# Altium schematic symbol library Analog Devices Amplifiers and Linear Voltage References.SchLib: 547 symbols (part 2 of 20)
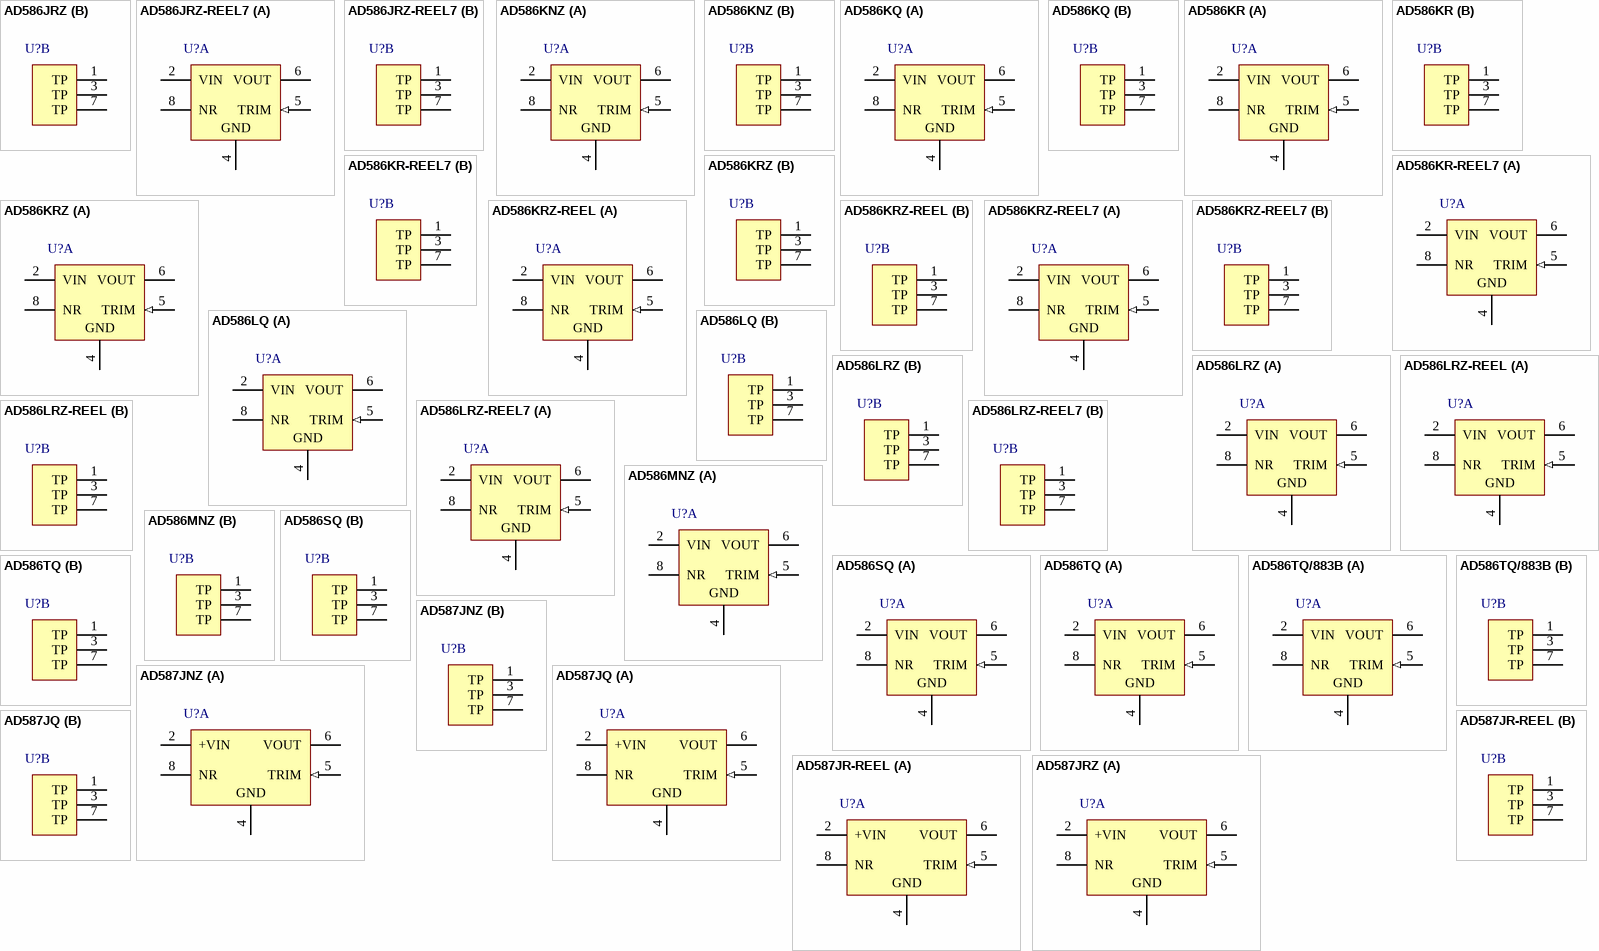
[diagram p21: symbols AD586JRZ to AD587JRZ]

## AD586KRZ-REEL
designator U?
High Precision Reference, 5 V Output, 10.8 to 36 V Supply, Commercial, 8-pin SOIC (R-8), Reel; Manufacturer: Analog Devices; PartNumber: AD586KRZ-REEL; Ref Out TC (ppm/C): 15; Vout: 5V; DatasheetVersion: Rev. G; PackageVersion: 060506-A, 06/2006; PackageReference: R-8; PackageDescription: 8-Pin Standard Small Outline Package, Body 4.9 x 3.9 mm, Pitch 1.27 mm; Supplier 1: Digi-Key; Supplier Part Number 1: AD586KRZ-REEL-ND; Supplier 2: Mouser; Supplier Part Number 2: 584-AD586KRZ-R; Packing: Reel; Operating Temp Range: 0 to 70 degC; Mounting Technology: Surface Mount; Code_JEDEC: MS-012-AA; ComponentLink1Description: Manufacturer URL; ComponentLink1URL: http://www.analog.com/en/index.html; ComponentLink2Description: Datasheet; ComponentLink2URL: http://www.analog.com/static/imported-files/data_sheets/AD586.pdf; ComponentLink3Description: Package Specification; ComponentLink3URL: http://www.analog.com/static/imported-files/packages/PKG_PDF/SOIC_Narrow%20(R)/R_8.pdf; ComponentLink4Description: URL Link1; ComponentLink4URL: Product URL:http://www.analog.com/en/special-linear-functions/voltage-references/ad586/products/product.html
footprint ADI-R-8_N (SOIC, 8-Leads, Body 4.9x3.9mm, Pitch 1.27mm, IPC Medium Density)
footprint ADI-R-8_L (SOIC, 8-Leads, Body 4.9x3.9mm, Pitch 1.27mm, IPC High Density)
footprint ADI-R-8_M (SOIC, 8-Leads, Body 4.9x3.9mm, Pitch 1.27mm, IPC Low Density)
part A pins: 2 VIN (power) "Input Voltage.", 4 GND (power) "Ground.", 5 TRIM (in) "Optional External Fine Trim. See the Applying the AD586 section.", 6 VOUT (power) "Output Voltage.", 8 NR "Optional Noise Reduction Filter with External 1uF Capacitor to Ground."
part B pins: 1 TP "Factory Trim Pad (No Connect).", 3 TP "Factory Trim Pad (No Connect).", 7 TP "Factory Trim Pad (No Connect)."

## AD586KRZ-REEL7
designator U?
High Precision Reference, 5 V Output, 10.8 to 36 V Supply, Commercial, 8-pin SOIC (R-8), Reel; Manufacturer: Analog Devices; PartNumber: AD586KRZ-REEL7; Ref Out TC (ppm/C): 15; Vout: 5V; DatasheetVersion: Rev. G; PackageVersion: 060506-A, 06/2006; PackageReference: R-8; PackageDescription: 8-Pin Standard Small Outline Package, Body 4.9 x 3.9 mm, Pitch 1.27 mm; Supplier 1: Digi-Key; Supplier Part Number 1: AD586KRZ-REEL7-ND; Supplier 2: Mouser; Supplier Part Number 2: 584-AD586KRZ-R7; Packing: Reel; Operating Temp Range: 0 to 70 degC; Mounting Technology: Surface Mount; Code_JEDEC: MS-012-AA; ComponentLink1Description: Manufacturer URL; ComponentLink1URL: http://www.analog.com/en/index.html; ComponentLink2Description: Datasheet; ComponentLink2URL: http://www.analog.com/static/imported-files/data_sheets/AD586.pdf; ComponentLink3Description: Package Specification; ComponentLink3URL: http://www.analog.com/static/imported-files/packages/PKG_PDF/SOIC_Narrow%20(R)/R_8.pdf; ComponentLink4Description: URL Link1; ComponentLink4URL: Product URL:http://www.analog.com/en/special-linear-functions/voltage-references/ad586/products/product.html
footprint ADI-R-8_N (SOIC, 8-Leads, Body 4.9x3.9mm, Pitch 1.27mm, IPC Medium Density)
footprint ADI-R-8_L (SOIC, 8-Leads, Body 4.9x3.9mm, Pitch 1.27mm, IPC High Density)
footprint ADI-R-8_M (SOIC, 8-Leads, Body 4.9x3.9mm, Pitch 1.27mm, IPC Low Density)
part A pins: 2 VIN (power) "Input Voltage.", 4 GND (power) "Ground.", 5 TRIM (in) "Optional External Fine Trim. See the Applying the AD586 section.", 6 VOUT (power) "Output Voltage.", 8 NR "Optional Noise Reduction Filter with External 1uF Capacitor to Ground."
part B pins: 1 TP "Factory Trim Pad (No Connect).", 3 TP "Factory Trim Pad (No Connect).", 7 TP "Factory Trim Pad (No Connect)."

## AD586LQ
designator U?
High Precision Reference, 5 V Output, 10.8 to 36 V Supply, Commercial, 8-pin DIP (Q-8), Tube; Manufacturer: Analog Devices; PartNumber: AD586LQ; Ref Out TC (ppm/C): 5; Vout: 5V; DatasheetVersion: Rev. G; PackageVersion: Aug-05; PackageReference: Q-8; PackageDescription: 8-Pin Ceramic Dual In-Line Package, Row spacing 7.62 mm, Pitch 2.54 mm; Supplier 1: Digi-Key; Supplier Part Number 1: AD586LQ-ND; Supplier 2: Farnell; Supplier Part Number 2: 2230227; Supplier 3: Mouser; Supplier Part Number 3: 584-AD586LQ; Packing: Tube; Operating Temp Range: 0 to 70 degC; Mounting Technology: Through Hole; ComponentLink1Description: Manufacturer URL; ComponentLink1URL: http://www.analog.com/en/index.html; ComponentLink2Description: Datasheet; ComponentLink2URL: http://www.analog.com/static/imported-files/data_sheets/AD586.pdf; ComponentLink3Description: Package Specification; ComponentLink3URL: http://www.analog.com/static/imported-files/packages/3925655241313314758Q_8.pdf; ComponentLink4Description: URL Link1; ComponentLink4URL: Product URL:http://www.analog.com/en/special-linear-functions/voltage-references/ad586/products/product.html
footprint ADI-Q-8 (DIP, 8-Leads, Body 10.29x6.73mm, Pitch 2.54mm)
part A pins: 2 VIN (power) "Input Voltage.", 4 GND (power) "Ground.", 5 TRIM (in) "Optional External Fine Trim. See the Applying the AD586 section.", 6 VOUT (power) "Output Voltage.", 8 NR "Optional Noise Reduction Filter with External 1uF Capacitor to Ground."
part B pins: 1 TP "Factory Trim Pad (No Connect).", 3 TP "Factory Trim Pad (No Connect).", 7 TP "Factory Trim Pad (No Connect)."

## AD586LRZ
designator U?
High Precision Reference, 5 V Output, 10.8 to 36 V Supply, Commercial, 8-pin SOIC (R-8), Tube; Manufacturer: Analog Devices; PartNumber: AD586LRZ; Ref Out TC (ppm/C): 5; Vout: 5V; DatasheetVersion: Rev. G; PackageVersion: 060506-A, 06/2006; PackageReference: R-8; PackageDescription: 8-Pin Standard Small Outline Package, Body 4.9 x 3.9 mm, Pitch 1.27 mm; Supplier 1: Digi-Key; Supplier Part Number 1: AD586LRZ-ND; Supplier 2: Farnell; Supplier Part Number 2: 1838915; Supplier 3: Mouser; Supplier Part Number 3: 584-AD586LRZ; Packing: Tube; Operating Temp Range: 0 to 70 degC; Mounting Technology: Surface Mount; Code_JEDEC: MS-012-AA; ComponentLink1Description: Manufacturer URL; ComponentLink1URL: http://www.analog.com/en/index.html; ComponentLink2Description: Datasheet; ComponentLink2URL: http://www.analog.com/static/imported-files/data_sheets/AD586.pdf; ComponentLink3Description: Package Specification; ComponentLink3URL: http://www.analog.com/static/imported-files/packages/PKG_PDF/SOIC_Narrow%20(R)/R_8.pdf; ComponentLink4Description: URL Link1; ComponentLink4URL: Product URL:http://www.analog.com/en/special-linear-functions/voltage-references/ad586/products/product.html
footprint ADI-R-8_N (SOIC, 8-Leads, Body 4.9x3.9mm, Pitch 1.27mm, IPC Medium Density)
footprint ADI-R-8_L (SOIC, 8-Leads, Body 4.9x3.9mm, Pitch 1.27mm, IPC High Density)
footprint ADI-R-8_M (SOIC, 8-Leads, Body 4.9x3.9mm, Pitch 1.27mm, IPC Low Density)
part A pins: 2 VIN (power) "Input Voltage.", 4 GND (power) "Ground.", 5 TRIM (in) "Optional External Fine Trim. See the Applying the AD586 section.", 6 VOUT (power) "Output Voltage.", 8 NR "Optional Noise Reduction Filter with External 1uF Capacitor to Ground."
part B pins: 1 TP "Factory Trim Pad (No Connect).", 3 TP "Factory Trim Pad (No Connect).", 7 TP "Factory Trim Pad (No Connect)."

## AD586LRZ-REEL
designator U?
High Precision Reference, 5 V Output, 10.8 to 36 V Supply, Commercial, 8-pin SOIC (R-8), Reel; Manufacturer: Analog Devices; PartNumber: AD586LRZ-REEL; Ref Out TC (ppm/C): 5; Vout: 5V; DatasheetVersion: Rev. G; PackageVersion: 060506-A, 06/2006; PackageReference: R-8; PackageDescription: 8-Pin Standard Small Outline Package, Body 4.9 x 3.9 mm, Pitch 1.27 mm; Supplier 1: Digi-Key; Supplier Part Number 1: AD586LRZ-REEL-ND; Supplier 2: Mouser; Supplier Part Number 2: 584-AD586LRZ-R; Packing: Reel; Operating Temp Range: 0 to 70 degC; Mounting Technology: Surface Mount; Code_JEDEC: MS-012-AA; ComponentLink1Description: Manufacturer URL; ComponentLink1URL: http://www.analog.com/en/index.html; ComponentLink2Description: Datasheet; ComponentLink2URL: http://www.analog.com/static/imported-files/data_sheets/AD586.pdf; ComponentLink3Description: Package Specification; ComponentLink3URL: http://www.analog.com/static/imported-files/packages/PKG_PDF/SOIC_Narrow%20(R)/R_8.pdf; ComponentLink4Description: URL Link1; ComponentLink4URL: Product URL:http://www.analog.com/en/special-linear-functions/voltage-references/ad586/products/product.html
footprint ADI-R-8_N (SOIC, 8-Leads, Body 4.9x3.9mm, Pitch 1.27mm, IPC Medium Density)
footprint ADI-R-8_L (SOIC, 8-Leads, Body 4.9x3.9mm, Pitch 1.27mm, IPC High Density)
footprint ADI-R-8_M (SOIC, 8-Leads, Body 4.9x3.9mm, Pitch 1.27mm, IPC Low Density)
part A pins: 2 VIN (power) "Input Voltage.", 4 GND (power) "Ground.", 5 TRIM (in) "Optional External Fine Trim. See the Applying the AD586 section.", 6 VOUT (power) "Output Voltage.", 8 NR "Optional Noise Reduction Filter with External 1uF Capacitor to Ground."
part B pins: 1 TP "Factory Trim Pad (No Connect).", 3 TP "Factory Trim Pad (No Connect).", 7 TP "Factory Trim Pad (No Connect)."

## AD586LRZ-REEL7
designator U?
High Precision Reference, 5 V Output, 10.8 to 36 V Supply, Commercial, 8-pin SOIC (R-8), Reel; Manufacturer: Analog Devices; PartNumber: AD586LRZ-REEL7; Ref Out TC (ppm/C): 5; Vout: 5V; DatasheetVersion: Rev. G; PackageVersion: 060506-A, 06/2006; PackageReference: R-8; PackageDescription: 8-Pin Standard Small Outline Package, Body 4.9 x 3.9 mm, Pitch 1.27 mm; Supplier 1: Digi-Key; Supplier Part Number 1: AD586LRZ-REEL7TR-ND; Supplier 2: Digi-Key; Supplier Part Number 2: AD586LRZ-REEL7CT-ND; Supplier 3: Digi-Key; Supplier Part Number 3: AD586LRZ-REEL7DKR-ND; Supplier 4: Mouser; Supplier Part Number 4: 584-AD586LRZ-R7; Packing: Reel; Operating Temp Range: 0 to 70 degC; Mounting Technology: Surface Mount; Code_JEDEC: MS-012-AA; ComponentLink1Description: Manufacturer URL; ComponentLink1URL: http://www.analog.com/en/index.html; ComponentLink2Description: Datasheet; ComponentLink2URL: http://www.analog.com/static/imported-files/data_sheets/AD586.pdf; ComponentLink3Description: Package Specification; ComponentLink3URL: http://www.analog.com/static/imported-files/packages/PKG_PDF/SOIC_Narrow%20(R)/R_8.pdf; ComponentLink4Description: URL Link1; ComponentLink4URL: Product URL:http://www.analog.com/en/special-linear-functions/voltage-references/ad586/products/product.html
footprint ADI-R-8_N (SOIC, 8-Leads, Body 4.9x3.9mm, Pitch 1.27mm, IPC Medium Density)
footprint ADI-R-8_L (SOIC, 8-Leads, Body 4.9x3.9mm, Pitch 1.27mm, IPC High Density)
footprint ADI-R-8_M (SOIC, 8-Leads, Body 4.9x3.9mm, Pitch 1.27mm, IPC Low Density)
part A pins: 2 VIN (power) "Input Voltage.", 4 GND (power) "Ground.", 5 TRIM (in) "Optional External Fine Trim. See the Applying the AD586 section.", 6 VOUT (power) "Output Voltage.", 8 NR "Optional Noise Reduction Filter with External 1uF Capacitor to Ground."
part B pins: 1 TP "Factory Trim Pad (No Connect).", 3 TP "Factory Trim Pad (No Connect).", 7 TP "Factory Trim Pad (No Connect)."

## AD586MNZ
designator U?
High Precision Reference, 5 V Output, 10.8 to 36 V Supply, Commercial, 8-pin DIP (N-8), Tube; Manufacturer: Analog Devices; PartNumber: AD586MNZ; Ref Out TC (ppm/C): 2; Vout: 5V; DatasheetVersion: Rev. G; PackageVersion: 070606-A, 07/2006; PackageReference: N-8; PackageDescription: 8-Pin Plastic Dual In-Line Package, Row spacing 7.62 mm, Pitch 2.54 mm; Supplier 1: Digi-Key; Supplier Part Number 1: AD586MNZ-ND; Supplier 2: Farnell; Supplier Part Number 2: 1438333; Supplier 3: Mouser; Supplier Part Number 3: 584-AD586MNZ; Packing: Tube; Operating Temp Range: 0 to 70 degC; Mounting Technology: Through Hole; Code_JEDEC: MS-001; ComponentLink1Description: Manufacturer URL; ComponentLink1URL: http://www.analog.com/en/index.html; ComponentLink2Description: Datasheet; ComponentLink2URL: http://www.analog.com/static/imported-files/data_sheets/AD586.pdf; ComponentLink3Description: Package Specification; ComponentLink3URL: http:/www.analog.com/static/imported-files/packages/PKG_PDF/PDIP(N)/N_8.pdf; ComponentLink4Description: URL Link1; ComponentLink4URL: Product URL:http://www.analog.com/en/special-linear-functions/voltage-references/ad586/products/product.html
footprint ADI-N-8 (DIP, 8-Leads, Body 9.59x6.6mm, Pitch 2.54mm)
part A pins: 2 VIN (power) "Input Voltage.", 4 GND (power) "Ground.", 5 TRIM (in) "Optional External Fine Trim. See the Applying the AD586 section.", 6 VOUT (power) "Output Voltage.", 8 NR "Optional Noise Reduction Filter with External 1uF Capacitor to Ground."
part B pins: 1 TP "Factory Trim Pad (No Connect).", 3 TP "Factory Trim Pad (No Connect).", 7 TP "Factory Trim Pad (No Connect)."

## AD586SQ
designator U?
High Precision Reference, 5 V Output, 10.8 to 36 V Supply, Military, 8-pin DIP (Q-8), Tube; Manufacturer: Analog Devices; PartNumber: AD586SQ; Ref Out TC (ppm/C): 20; Vout: 5V; DatasheetVersion: Rev. G; PackageVersion: Aug-05; PackageReference: Q-8; PackageDescription: 8-Pin Ceramic Dual In-Line Package, Row spacing 7.62 mm, Pitch 2.54 mm; Supplier 1: Digi-Key; Supplier Part Number 1: AD586SQ-ND; Supplier 2: Mouser; Supplier Part Number 2: 584-AD586SQ; Packing: Tube; Operating Temp Range: -40 to 125 degC; Mounting Technology: Through Hole; ComponentLink1Description: Manufacturer URL; ComponentLink1URL: http://www.analog.com/en/index.html; ComponentLink2Description: Datasheet; ComponentLink2URL: http://www.analog.com/static/imported-files/data_sheets/AD586.pdf; ComponentLink3Description: Package Specification; ComponentLink3URL: http://www.analog.com/static/imported-files/packages/3925655241313314758Q_8.pdf; ComponentLink4Description: URL Link1; ComponentLink4URL: Product URL:http://www.analog.com/en/special-linear-functions/voltage-references/ad586/products/product.html
footprint ADI-Q-8 (DIP, 8-Leads, Body 10.29x6.73mm, Pitch 2.54mm)
part A pins: 2 VIN (power) "Input Voltage.", 4 GND (power) "Ground.", 5 TRIM (in) "Optional External Fine Trim. See the Applying the AD586 section.", 6 VOUT (power) "Output Voltage.", 8 NR "Optional Noise Reduction Filter with External 1uF Capacitor to Ground."
part B pins: 1 TP "Factory Trim Pad (No Connect).", 3 TP "Factory Trim Pad (No Connect).", 7 TP "Factory Trim Pad (No Connect)."

## AD586TQ
designator U?
High Precision Reference, 5 V Output, 10.8 to 36 V Supply, Military, 8-pin DIP (Q-8), Tube; Manufacturer: Analog Devices; PartNumber: AD586TQ; Ref Out TC (ppm/C): 10; Vout: 5V; DatasheetVersion: Rev. G; PackageVersion: Aug-05; PackageReference: Q-8; PackageDescription: 8-Pin Ceramic Dual In-Line Package, Row spacing 7.62 mm, Pitch 2.54 mm; Supplier 1: Digi-Key; Supplier Part Number 1: AD586TQ-ND; Supplier 2: Mouser; Supplier Part Number 2: 584-AD586TQ; Packing: Tube; Operating Temp Range: -40 to 125 degC; Mounting Technology: Through Hole; ComponentLink1Description: Manufacturer URL; ComponentLink1URL: http://www.analog.com/en/index.html; ComponentLink2Description: Datasheet; ComponentLink2URL: http://www.analog.com/static/imported-files/data_sheets/AD586.pdf; ComponentLink3Description: Package Specification; ComponentLink3URL: http://www.analog.com/static/imported-files/packages/3925655241313314758Q_8.pdf; ComponentLink4Description: URL Link1; ComponentLink4URL: Product URL:http://www.analog.com/en/special-linear-functions/voltage-references/ad586/products/product.html
footprint ADI-Q-8 (DIP, 8-Leads, Body 10.29x6.73mm, Pitch 2.54mm)
part A pins: 2 VIN (power) "Input Voltage.", 4 GND (power) "Ground.", 5 TRIM (in) "Optional External Fine Trim. See the Applying the AD586 section.", 6 VOUT (power) "Output Voltage.", 8 NR "Optional Noise Reduction Filter with External 1uF Capacitor to Ground."
part B pins: 1 TP "Factory Trim Pad (No Connect).", 3 TP "Factory Trim Pad (No Connect).", 7 TP "Factory Trim Pad (No Connect)."

## AD586TQ/883B
designator U?
High Precision Reference, 5 V Output, 10.8 to 36 V Supply, Military, 8-pin DIP (Q-8), Tube; Manufacturer: Analog Devices; PartNumber: AD586TQ/883B; Ref Out TC (ppm/C): 10; Vout: 5V; DatasheetVersion: Rev. G; PackageVersion: Aug-05; PackageReference: Q-8; PackageDescription: 8-Pin Ceramic Dual In-Line Package, Row spacing 7.62 mm, Pitch 2.54 mm; Supplier 1: Mouser; Supplier Part Number 1: 584-AD586TQ883B; Packing: Tube; Operating Temp Range: -40 to 125 degC; Mounting Technology: Through Hole; ComponentLink1Description: Manufacturer URL; ComponentLink1URL: http://www.analog.com/en/index.html; ComponentLink2Description: Datasheet; ComponentLink2URL: http://www.analog.com/static/imported-files/data_sheets/AD586.pdf; ComponentLink3Description: Package Specification; ComponentLink3URL: http://www.analog.com/static/imported-files/packages/3925655241313314758Q_8.pdf; ComponentLink4Description: URL Link1; ComponentLink4URL: Product URL:http://www.analog.com/en/special-linear-functions/voltage-references/ad586/products/product.html
footprint ADI-Q-8 (DIP, 8-Leads, Body 10.29x6.73mm, Pitch 2.54mm)
part A pins: 2 VIN (power) "Input Voltage.", 4 GND (power) "Ground.", 5 TRIM (in) "Optional External Fine Trim. See the Applying the AD586 section.", 6 VOUT (power) "Output Voltage.", 8 NR "Optional Noise Reduction Filter with External 1uF Capacitor to Ground."
part B pins: 1 TP "Factory Trim Pad (No Connect).", 3 TP "Factory Trim Pad (No Connect).", 7 TP "Factory Trim Pad (No Connect)."

## AD587JNZ
designator U?
High Precision Voltage Reference, 10 V Output, 13.5 to 36 V Supply, Commercial, 8-pin DIP (N-8), Tube; Manufacturer: Analog Devices; PartNumber: AD587JNZ; Ref Out TC (ppm/C): 20; Vout: 10V; DatasheetVersion: Rev. H; PackageVersion: 070606-A, 07/2006; PackageReference: N-8; PackageDescription: 8-Pin Plastic Dual In-Line Package, Row spacing 7.62 mm, Pitch 2.54 mm; Supplier 1: Digi-Key; Supplier Part Number 1: AD587JNZ-ND; Supplier 2: Farnell; Supplier Part Number 2: 9605169; Supplier 3: Mouser; Supplier Part Number 3: 584-AD587JNZ; Packing: Tube; Operating Temp Range: 0 to 70 degC; Mounting Technology: Through Hole; Code_JEDEC: MS-001; ComponentLink1Description: Manufacturer URL; ComponentLink1URL: http://www.analog.com/en/index.html; ComponentLink2Description: Datasheet; ComponentLink2URL: http://www.analog.com/static/imported-files/data_sheets/AD587.pdf; ComponentLink3Description: Package Specification; ComponentLink3URL: http:/www.analog.com/static/imported-files/packages/PKG_PDF/PDIP(N)/N_8.pdf; ComponentLink4Description: URL Link1; ComponentLink4URL: Product URL:http://www.analog.com/en/special-linear-functions/voltage-references/ad587/products/product.html
footprint ADI-N-8 (DIP, 8-Leads, Body 9.59x6.6mm, Pitch 2.54mm)
part A pins: 2 +VIN (power) "Input Voltage.", 4 GND (power) "Ground.", 5 TRIM (in) "Fine Trimming of Output Voltage.", 6 VOUT (power) "Output Voltage.", 8 NR "Noise Reduction of Output Voltage. Reduces noise via external capacitor to ground."
part B pins: 1 TP "No Connection. Leave floating.", 3 TP "No Connection. Leave floating.", 7 TP "No Connection. Leave floating."

## AD587JQ
designator U?
High Precision Voltage Reference, 10 V Output, 13.5 to 36 V Supply, Commercial, 8-pin DIP (Q-8), Tube; Manufacturer: Analog Devices; PartNumber: AD587JQ; Ref Out TC (ppm/C): 20; Vout: 10V; DatasheetVersion: Rev. H; PackageVersion: Aug-05; PackageReference: Q-8; PackageDescription: 8-Pin Ceramic Dual In-Line Package, Row spacing 7.62 mm, Pitch 2.54 mm; Supplier 1: Digi-Key; Supplier Part Number 1: AD587JQ-ND; Supplier 2: Mouser; Supplier Part Number 2: 584-AD587JQ; Packing: Tube; Operating Temp Range: 0 to 70 degC; Mounting Technology: Through Hole; ComponentLink1Description: Manufacturer URL; ComponentLink1URL: http://www.analog.com/en/index.html; ComponentLink2Description: Datasheet; ComponentLink2URL: http://www.analog.com/static/imported-files/data_sheets/AD587.pdf; ComponentLink3Description: Package Specification; ComponentLink3URL: http://www.analog.com/static/imported-files/packages/3925655241313314758Q_8.pdf; ComponentLink4Description: URL Link1; ComponentLink4URL: Product URL:http://www.analog.com/en/special-linear-functions/voltage-references/ad587/products/product.html
footprint ADI-Q-8 (DIP, 8-Leads, Body 10.29x6.73mm, Pitch 2.54mm)
part A pins: 2 +VIN (power) "Input Voltage.", 4 GND (power) "Ground.", 5 TRIM (in) "Fine Trimming of Output Voltage.", 6 VOUT (power) "Output Voltage.", 8 NR "Noise Reduction of Output Voltage. Reduces noise via external capacitor to ground."
part B pins: 1 TP "No Connection. Leave floating.", 3 TP "No Connection. Leave floating.", 7 TP "No Connection. Leave floating."

## AD587JR-REEL
designator U?
High Precision Voltage Reference, 10 V Output, 13.5 to 36 V Supply, Commercial, 8-pin SOIC (R-8), Reel; Manufacturer: Analog Devices; PartNumber: AD587JR-REEL; Ref Out TC (ppm/C): 20; Vout: 10V; DatasheetVersion: Rev. H; PackageVersion: 060506-A, 06/2006; PackageReference: R-8; PackageDescription: 8-Pin Standard Small Outline Package, Body 4.9 x 3.9 mm, Pitch 1.27 mm; Supplier 1: Digi-Key; Supplier Part Number 1: AD587JR-REEL-ND; Supplier 2: Mouser; Supplier Part Number 2: N/A; Packing: Reel; Operating Temp Range: 0 to 70 degC; Mounting Technology: Surface Mount; Code_JEDEC: MS-012-AA; ComponentLink1Description: Manufacturer URL; ComponentLink1URL: http://www.analog.com/en/index.html; ComponentLink2Description: Datasheet; ComponentLink2URL: http://www.analog.com/static/imported-files/data_sheets/AD587.pdf; ComponentLink3Description: Package Specification; ComponentLink3URL: http://www.analog.com/static/imported-files/packages/PKG_PDF/SOIC_Narrow%20(R)/R_8.pdf; ComponentLink4Description: URL Link1; ComponentLink4URL: Product URL:http://www.analog.com/en/special-linear-functions/voltage-references/ad587/products/product.html
footprint ADI-R-8_N (SOIC, 8-Leads, Body 4.9x3.9mm, Pitch 1.27mm, IPC Medium Density)
footprint ADI-R-8_L (SOIC, 8-Leads, Body 4.9x3.9mm, Pitch 1.27mm, IPC High Density)
footprint ADI-R-8_M (SOIC, 8-Leads, Body 4.9x3.9mm, Pitch 1.27mm, IPC Low Density)
part A pins: 2 +VIN (power) "Input Voltage.", 4 GND (power) "Ground.", 5 TRIM (in) "Fine Trimming of Output Voltage.", 6 VOUT (power) "Output Voltage.", 8 NR "Noise Reduction of Output Voltage. Reduces noise via external capacitor to ground."
part B pins: 1 TP "No Connection. Leave floating.", 3 TP "No Connection. Leave floating.", 7 TP "No Connection. Leave floating."

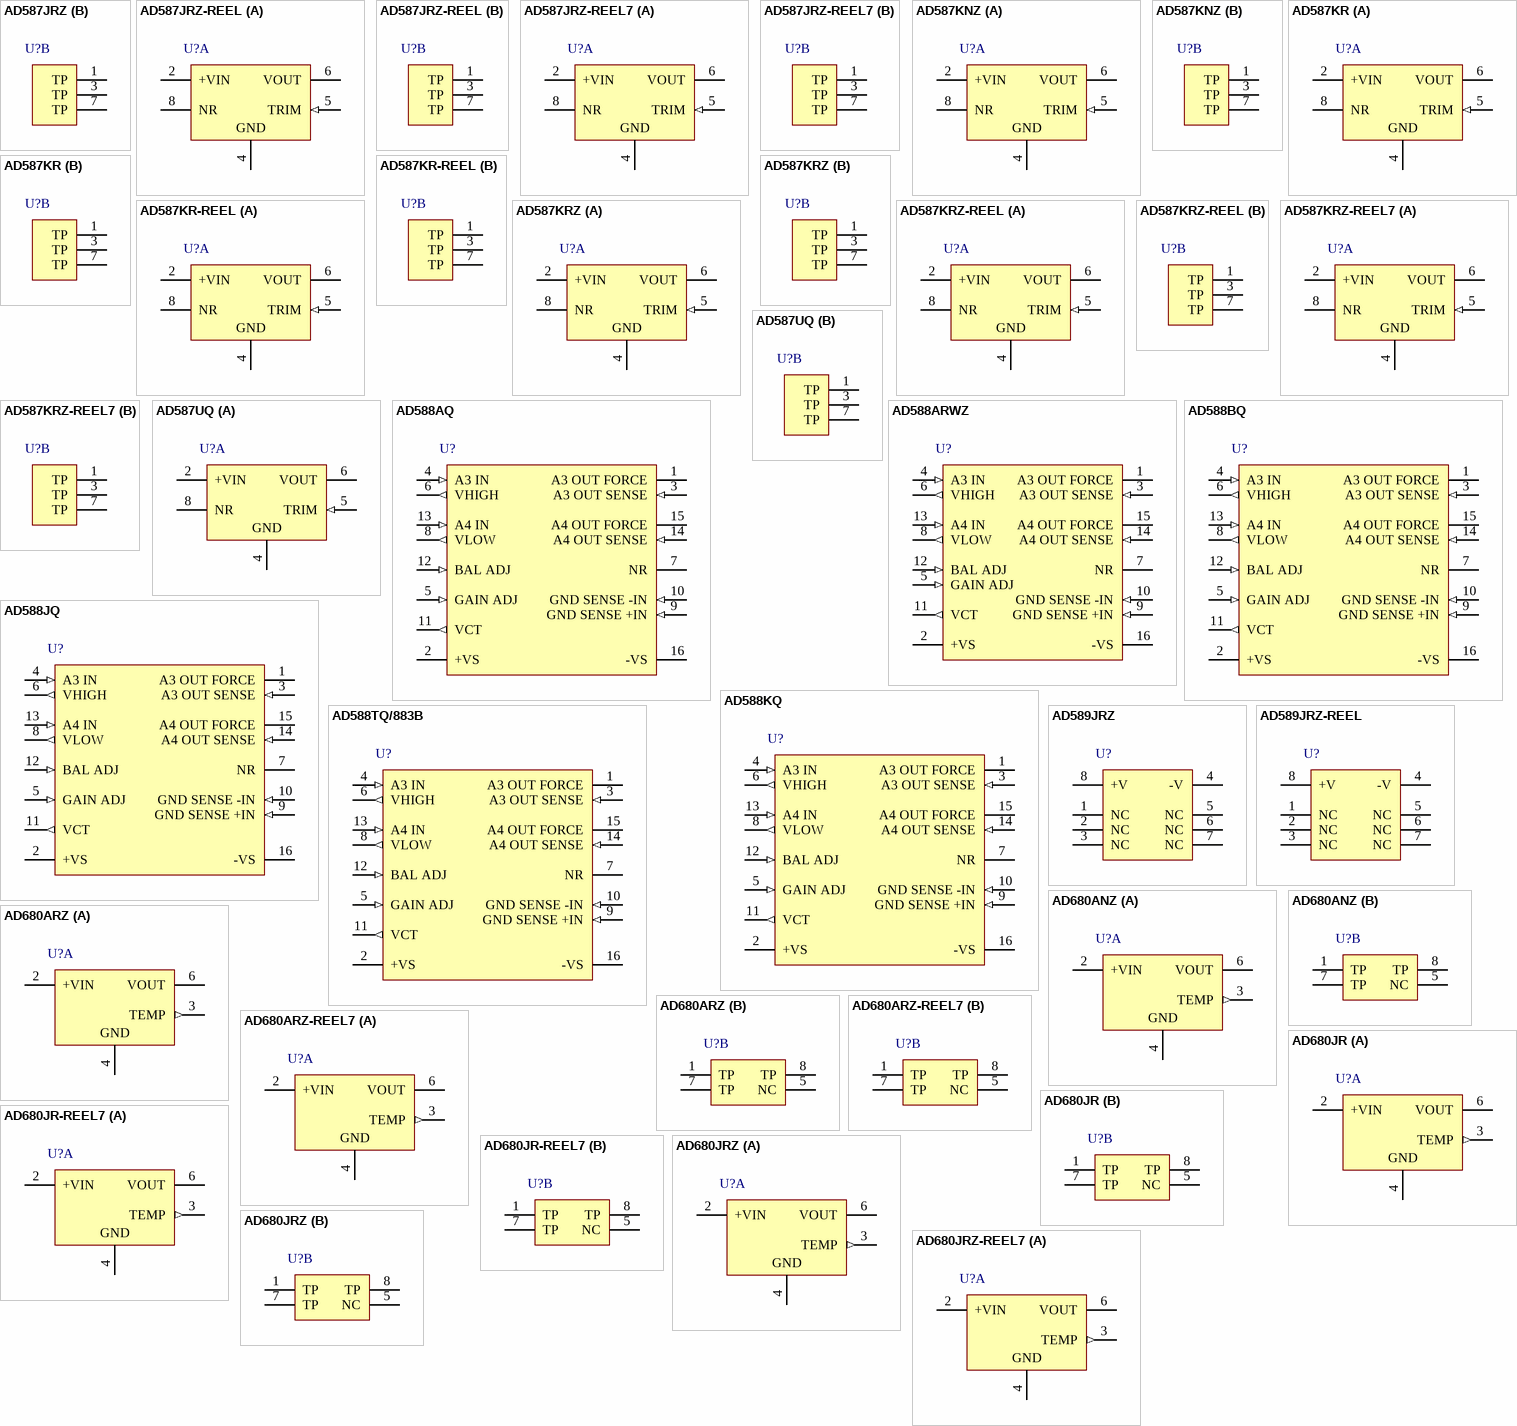
[diagram p2: symbols AD587JRZ to AD680JRZ-REEL7]

## AD587JRZ
designator U?
High Precision Voltage Reference, 10 V Output, 13.5 to 36 V Supply, Commercial, 8-pin SOIC (R-8), Tube; Manufacturer: Analog Devices; PartNumber: AD587JRZ; Ref Out TC (ppm/C): 20; Vout: 10V; DatasheetVersion: Rev. H; PackageVersion: 060506-A, 06/2006; PackageReference: R-8; PackageDescription: 8-Pin Standard Small Outline Package, Body 4.9 x 3.9 mm, Pitch 1.27 mm; Supplier 1: Digi-Key; Supplier Part Number 1: AD587JRZ-ND; Supplier 2: Farnell; Supplier Part Number 2: 9426175; Supplier 3: Mouser; Supplier Part Number 3: 584-AD587JRZ; Packing: Tube; Operating Temp Range: 0 to 70 degC; Mounting Technology: Surface Mount; Code_JEDEC: MS-012-AA; ComponentLink1Description: Manufacturer URL; ComponentLink1URL: http://www.analog.com/en/index.html; ComponentLink2Description: Datasheet; ComponentLink2URL: http://www.analog.com/static/imported-files/data_sheets/AD587.pdf; ComponentLink3Description: Package Specification; ComponentLink3URL: http://www.analog.com/static/imported-files/packages/PKG_PDF/SOIC_Narrow%20(R)/R_8.pdf; ComponentLink4Description: URL Link1; ComponentLink4URL: Product URL:http://www.analog.com/en/special-linear-functions/voltage-references/ad587/products/product.html
footprint ADI-R-8_N (SOIC, 8-Leads, Body 4.9x3.9mm, Pitch 1.27mm, IPC Medium Density)
footprint ADI-R-8_L (SOIC, 8-Leads, Body 4.9x3.9mm, Pitch 1.27mm, IPC High Density)
footprint ADI-R-8_M (SOIC, 8-Leads, Body 4.9x3.9mm, Pitch 1.27mm, IPC Low Density)
part A pins: 2 +VIN (power) "Input Voltage.", 4 GND (power) "Ground.", 5 TRIM (in) "Fine Trimming of Output Voltage.", 6 VOUT (power) "Output Voltage.", 8 NR "Noise Reduction of Output Voltage. Reduces noise via external capacitor to ground."
part B pins: 1 TP "No Connection. Leave floating.", 3 TP "No Connection. Leave floating.", 7 TP "No Connection. Leave floating."

## AD587JRZ-REEL
designator U?
High Precision Voltage Reference, 10 V Output, 13.5 to 36 V Supply, Commercial, 8-pin SOIC (R-8), Reel; Manufacturer: Analog Devices; PartNumber: AD587JRZ-REEL; Ref Out TC (ppm/C): 20; Vout: 10V; DatasheetVersion: Rev. H; PackageVersion: 060506-A, 06/2006; PackageReference: R-8; PackageDescription: 8-Pin Standard Small Outline Package, Body 4.9 x 3.9 mm, Pitch 1.27 mm; Supplier 1: Digi-Key; Supplier Part Number 1: AD587JRZ-REEL-ND; Supplier 2: Mouser; Supplier Part Number 2: 584-AD587JRZ-R; Packing: Reel; Operating Temp Range: 0 to 70 degC; Mounting Technology: Surface Mount; Code_JEDEC: MS-012-AA; ComponentLink1Description: Manufacturer URL; ComponentLink1URL: http://www.analog.com/en/index.html; ComponentLink2Description: Datasheet; ComponentLink2URL: http://www.analog.com/static/imported-files/data_sheets/AD587.pdf; ComponentLink3Description: Package Specification; ComponentLink3URL: http://www.analog.com/static/imported-files/packages/PKG_PDF/SOIC_Narrow%20(R)/R_8.pdf; ComponentLink4Description: URL Link1; ComponentLink4URL: Product URL:http://www.analog.com/en/special-linear-functions/voltage-references/ad587/products/product.html
footprint ADI-R-8_N (SOIC, 8-Leads, Body 4.9x3.9mm, Pitch 1.27mm, IPC Medium Density)
footprint ADI-R-8_L (SOIC, 8-Leads, Body 4.9x3.9mm, Pitch 1.27mm, IPC High Density)
footprint ADI-R-8_M (SOIC, 8-Leads, Body 4.9x3.9mm, Pitch 1.27mm, IPC Low Density)
part A pins: 2 +VIN (power) "Input Voltage.", 4 GND (power) "Ground.", 5 TRIM (in) "Fine Trimming of Output Voltage.", 6 VOUT (power) "Output Voltage.", 8 NR "Noise Reduction of Output Voltage. Reduces noise via external capacitor to ground."
part B pins: 1 TP "No Connection. Leave floating.", 3 TP "No Connection. Leave floating.", 7 TP "No Connection. Leave floating."

## AD587JRZ-REEL7
designator U?
High Precision Voltage Reference, 10 V Output, 13.5 to 36 V Supply, Commercial, 8-pin SOIC (R-8), Reel; Manufacturer: Analog Devices; PartNumber: AD587JRZ-REEL7; Ref Out TC (ppm/C): 20; Vout: 10V; DatasheetVersion: Rev. H; PackageVersion: 060506-A, 06/2006; PackageReference: R-8; PackageDescription: 8-Pin Standard Small Outline Package, Body 4.9 x 3.9 mm, Pitch 1.27 mm; Supplier 1: Digi-Key; Supplier Part Number 1: AD587JRZ-REEL7-ND; Supplier 2: Mouser; Supplier Part Number 2: 584-AD587JRZ-R7; Packing: Reel; Operating Temp Range: 0 to 70 degC; Mounting Technology: Surface Mount; Code_JEDEC: MS-012-AA; ComponentLink1Description: Manufacturer URL; ComponentLink1URL: http://www.analog.com/en/index.html; ComponentLink2Description: Datasheet; ComponentLink2URL: http://www.analog.com/static/imported-files/data_sheets/AD587.pdf; ComponentLink3Description: Package Specification; ComponentLink3URL: http://www.analog.com/static/imported-files/packages/PKG_PDF/SOIC_Narrow%20(R)/R_8.pdf; ComponentLink4Description: URL Link1; ComponentLink4URL: Product URL:http://www.analog.com/en/special-linear-functions/voltage-references/ad587/products/product.html
footprint ADI-R-8_N (SOIC, 8-Leads, Body 4.9x3.9mm, Pitch 1.27mm, IPC Medium Density)
footprint ADI-R-8_L (SOIC, 8-Leads, Body 4.9x3.9mm, Pitch 1.27mm, IPC High Density)
footprint ADI-R-8_M (SOIC, 8-Leads, Body 4.9x3.9mm, Pitch 1.27mm, IPC Low Density)
part A pins: 2 +VIN (power) "Input Voltage.", 4 GND (power) "Ground.", 5 TRIM (in) "Fine Trimming of Output Voltage.", 6 VOUT (power) "Output Voltage.", 8 NR "Noise Reduction of Output Voltage. Reduces noise via external capacitor to ground."
part B pins: 1 TP "No Connection. Leave floating.", 3 TP "No Connection. Leave floating.", 7 TP "No Connection. Leave floating."

## AD587KNZ
designator U?
High Precision Voltage Reference, 10 V Output, 13.5 to 36 V Supply, Commercial, 8-pin DIP (N-8), Tube; Manufacturer: Analog Devices; PartNumber: AD587KNZ; Ref Out TC (ppm/C): 10; Vout: 10V; DatasheetVersion: Rev. H; PackageVersion: 070606-A, 07/2006; PackageReference: N-8; PackageDescription: 8-Pin Plastic Dual In-Line Package, Row spacing 7.62 mm, Pitch 2.54 mm; Supplier 1: Digi-Key; Supplier Part Number 1: AD587KNZ-ND; Supplier 2: Farnell; Supplier Part Number 2: 2143134; Supplier 3: Mouser; Supplier Part Number 3: 584-AD587KNZ; Packing: Tube; Operating Temp Range: 0 to 70 degC; Mounting Technology: Through Hole; Code_JEDEC: MS-001; ComponentLink1Description: Manufacturer URL; ComponentLink1URL: http://www.analog.com/en/index.html; ComponentLink2Description: Datasheet; ComponentLink2URL: http://www.analog.com/static/imported-files/data_sheets/AD587.pdf; ComponentLink3Description: Package Specification; ComponentLink3URL: http:/www.analog.com/static/imported-files/packages/PKG_PDF/PDIP(N)/N_8.pdf; ComponentLink4Description: URL Link1; ComponentLink4URL: Product URL:http://www.analog.com/en/special-linear-functions/voltage-references/ad587/products/product.html
footprint ADI-N-8 (DIP, 8-Leads, Body 9.59x6.6mm, Pitch 2.54mm)
part A pins: 2 +VIN (power) "Input Voltage.", 4 GND (power) "Ground.", 5 TRIM (in) "Fine Trimming of Output Voltage.", 6 VOUT (power) "Output Voltage.", 8 NR "Noise Reduction of Output Voltage. Reduces noise via external capacitor to ground."
part B pins: 1 TP "No Connection. Leave floating.", 3 TP "No Connection. Leave floating.", 7 TP "No Connection. Leave floating."

## AD587KR
designator U?
High Precision Voltage Reference, 10 V Output, 13.5 to 36 V Supply, Commercial, 8-pin SOIC (R-8), Tube; Manufacturer: Analog Devices; PartNumber: AD587KR; Ref Out TC (ppm/C): 10; Vout: 10V; DatasheetVersion: Rev. H; PackageVersion: 060506-A, 06/2006; PackageReference: R-8; PackageDescription: 8-Pin Standard Small Outline Package, Body 4.9 x 3.9 mm, Pitch 1.27 mm; Supplier 1: Digi-Key; Supplier Part Number 1: AD587KR-ND; Supplier 2: Mouser; Supplier Part Number 2: N/A; Packing: Tube; Operating Temp Range: 0 to 70 degC; Mounting Technology: Surface Mount; Code_JEDEC: MS-012-AA; ComponentLink1Description: Manufacturer URL; ComponentLink1URL: http://www.analog.com/en/index.html; ComponentLink2Description: Datasheet; ComponentLink2URL: http://www.analog.com/static/imported-files/data_sheets/AD587.pdf; ComponentLink3Description: Package Specification; ComponentLink3URL: http://www.analog.com/static/imported-files/packages/PKG_PDF/SOIC_Narrow%20(R)/R_8.pdf; ComponentLink4Description: URL Link1; ComponentLink4URL: Product URL:http://www.analog.com/en/special-linear-functions/voltage-references/ad587/products/product.html
footprint ADI-R-8_N (SOIC, 8-Leads, Body 4.9x3.9mm, Pitch 1.27mm, IPC Medium Density)
footprint ADI-R-8_L (SOIC, 8-Leads, Body 4.9x3.9mm, Pitch 1.27mm, IPC High Density)
footprint ADI-R-8_M (SOIC, 8-Leads, Body 4.9x3.9mm, Pitch 1.27mm, IPC Low Density)
part A pins: 2 +VIN (power) "Input Voltage.", 4 GND (power) "Ground.", 5 TRIM (in) "Fine Trimming of Output Voltage.", 6 VOUT (power) "Output Voltage.", 8 NR "Noise Reduction of Output Voltage. Reduces noise via external capacitor to ground."
part B pins: 1 TP "No Connection. Leave floating.", 3 TP "No Connection. Leave floating.", 7 TP "No Connection. Leave floating."

## AD587KR-REEL
designator U?
High Precision Voltage Reference, 10 V Output, 13.5 to 36 V Supply, Commercial, 8-pin SOIC (R-8), Reel; Manufacturer: Analog Devices; PartNumber: AD587KR-REEL; Ref Out TC (ppm/C): 10; Vout: 10V; DatasheetVersion: Rev. H; PackageVersion: 060506-A, 06/2006; PackageReference: R-8; PackageDescription: 8-Pin Standard Small Outline Package, Body 4.9 x 3.9 mm, Pitch 1.27 mm; Supplier 1: Digi-Key; Supplier Part Number 1: AD587KR-REELTR-ND; Supplier 2: Digi-Key; Supplier Part Number 2: AD587KR-REELCT-ND; Supplier 3: Digi-Key; Supplier Part Number 3: AD587KR-REELDKR-ND; Supplier 4: Mouser; Supplier Part Number 4: 584-AD587KR-R; Packing: Reel; Operating Temp Range: 0 to 70 degC; Mounting Technology: Surface Mount; Code_JEDEC: MS-012-AA; ComponentLink1Description: Manufacturer URL; ComponentLink1URL: http://www.analog.com/en/index.html; ComponentLink2Description: Datasheet; ComponentLink2URL: http://www.analog.com/static/imported-files/data_sheets/AD587.pdf; ComponentLink3Description: Package Specification; ComponentLink3URL: http://www.analog.com/static/imported-files/packages/PKG_PDF/SOIC_Narrow%20(R)/R_8.pdf; ComponentLink4Description: URL Link1; ComponentLink4URL: Product URL:http://www.analog.com/en/special-linear-functions/voltage-references/ad587/products/product.html
footprint ADI-R-8_N (SOIC, 8-Leads, Body 4.9x3.9mm, Pitch 1.27mm, IPC Medium Density)
footprint ADI-R-8_L (SOIC, 8-Leads, Body 4.9x3.9mm, Pitch 1.27mm, IPC High Density)
footprint ADI-R-8_M (SOIC, 8-Leads, Body 4.9x3.9mm, Pitch 1.27mm, IPC Low Density)
part A pins: 2 +VIN (power) "Input Voltage.", 4 GND (power) "Ground.", 5 TRIM (in) "Fine Trimming of Output Voltage.", 6 VOUT (power) "Output Voltage.", 8 NR "Noise Reduction of Output Voltage. Reduces noise via external capacitor to ground."
part B pins: 1 TP "No Connection. Leave floating.", 3 TP "No Connection. Leave floating.", 7 TP "No Connection. Leave floating."

## AD587KRZ
designator U?
High Precision Voltage Reference, 10 V Output, 13.5 to 36 V Supply, Commercial, 8-pin SOIC (R-8), Tube; Manufacturer: Analog Devices; PartNumber: AD587KRZ; Ref Out TC (ppm/C): 10; Vout: 10V; DatasheetVersion: Rev. H; PackageVersion: 060506-A, 06/2006; PackageReference: R-8; PackageDescription: 8-Pin Standard Small Outline Package, Body 4.9 x 3.9 mm, Pitch 1.27 mm; Supplier 1: Digi-Key; Supplier Part Number 1: AD587KRZ-ND; Supplier 2: Mouser; Supplier Part Number 2: 584-AD587KRZ; Packing: Tube; Operating Temp Range: 0 to 70 degC; Mounting Technology: Surface Mount; Code_JEDEC: MS-012-AA; ComponentLink1Description: Manufacturer URL; ComponentLink1URL: http://www.analog.com/en/index.html; ComponentLink2Description: Datasheet; ComponentLink2URL: http://www.analog.com/static/imported-files/data_sheets/AD587.pdf; ComponentLink3Description: Package Specification; ComponentLink3URL: http://www.analog.com/static/imported-files/packages/PKG_PDF/SOIC_Narrow%20(R)/R_8.pdf; ComponentLink4Description: URL Link1; ComponentLink4URL: Product URL:http://www.analog.com/en/special-linear-functions/voltage-references/ad587/products/product.html
footprint ADI-R-8_N (SOIC, 8-Leads, Body 4.9x3.9mm, Pitch 1.27mm, IPC Medium Density)
footprint ADI-R-8_L (SOIC, 8-Leads, Body 4.9x3.9mm, Pitch 1.27mm, IPC High Density)
footprint ADI-R-8_M (SOIC, 8-Leads, Body 4.9x3.9mm, Pitch 1.27mm, IPC Low Density)
part A pins: 2 +VIN (power) "Input Voltage.", 4 GND (power) "Ground.", 5 TRIM (in) "Fine Trimming of Output Voltage.", 6 VOUT (power) "Output Voltage.", 8 NR "Noise Reduction of Output Voltage. Reduces noise via external capacitor to ground."
part B pins: 1 TP "No Connection. Leave floating.", 3 TP "No Connection. Leave floating.", 7 TP "No Connection. Leave floating."

## AD587KRZ-REEL
designator U?
High Precision Voltage Reference, 10 V Output, 13.5 to 36 V Supply, Commercial, 8-pin SOIC (R-8), Reel; Manufacturer: Analog Devices; PartNumber: AD587KRZ-REEL; Ref Out TC (ppm/C): 10; Vout: 10V; DatasheetVersion: Rev. H; PackageVersion: 060506-A, 06/2006; PackageReference: R-8; PackageDescription: 8-Pin Standard Small Outline Package, Body 4.9 x 3.9 mm, Pitch 1.27 mm; Supplier 1: Digi-Key; Supplier Part Number 1: AD587KRZ-REEL-ND; Supplier 2: Mouser; Supplier Part Number 2: 584-AD587KRZ-R; Packing: Reel; Operating Temp Range: 0 to 70 degC; Mounting Technology: Surface Mount; Code_JEDEC: MS-012-AA; ComponentLink1Description: Manufacturer URL; ComponentLink1URL: http://www.analog.com/en/index.html; ComponentLink2Description: Datasheet; ComponentLink2URL: http://www.analog.com/static/imported-files/data_sheets/AD587.pdf; ComponentLink3Description: Package Specification; ComponentLink3URL: http://www.analog.com/static/imported-files/packages/PKG_PDF/SOIC_Narrow%20(R)/R_8.pdf; ComponentLink4Description: URL Link1; ComponentLink4URL: Product URL:http://www.analog.com/en/special-linear-functions/voltage-references/ad587/products/product.html
footprint ADI-R-8_N (SOIC, 8-Leads, Body 4.9x3.9mm, Pitch 1.27mm, IPC Medium Density)
footprint ADI-R-8_L (SOIC, 8-Leads, Body 4.9x3.9mm, Pitch 1.27mm, IPC High Density)
footprint ADI-R-8_M (SOIC, 8-Leads, Body 4.9x3.9mm, Pitch 1.27mm, IPC Low Density)
part A pins: 2 +VIN (power) "Input Voltage.", 4 GND (power) "Ground.", 5 TRIM (in) "Fine Trimming of Output Voltage.", 6 VOUT (power) "Output Voltage.", 8 NR "Noise Reduction of Output Voltage. Reduces noise via external capacitor to ground."
part B pins: 1 TP "No Connection. Leave floating.", 3 TP "No Connection. Leave floating.", 7 TP "No Connection. Leave floating."

## AD587KRZ-REEL7
designator U?
High Precision Voltage Reference, 10 V Output, 13.5 to 36 V Supply, Commercial, 8-pin SOIC (R-8), Reel; Manufacturer: Analog Devices; PartNumber: AD587KRZ-REEL7; Ref Out TC (ppm/C): 10; Vout: 10V; DatasheetVersion: Rev. H; PackageVersion: 060506-A, 06/2006; PackageReference: R-8; PackageDescription: 8-Pin Standard Small Outline Package, Body 4.9 x 3.9 mm, Pitch 1.27 mm; Supplier 1: Digi-Key; Supplier Part Number 1: AD587KRZ-REEL7TR-ND; Supplier 2: Digi-Key; Supplier Part Number 2: AD587KRZ-REEL7CT-ND; Supplier 3: Digi-Key; Supplier Part Number 3: AD587KRZ-REEL7DKR-ND; Supplier 4: Mouser; Supplier Part Number 4: 584-AD587KRZ-R7; Packing: Reel; Operating Temp Range: 0 to 70 degC; Mounting Technology: Surface Mount; Code_JEDEC: MS-012-AA; ComponentLink1Description: Manufacturer URL; ComponentLink1URL: http://www.analog.com/en/index.html; ComponentLink2Description: Datasheet; ComponentLink2URL: http://www.analog.com/static/imported-files/data_sheets/AD587.pdf; ComponentLink3Description: Package Specification; ComponentLink3URL: http://www.analog.com/static/imported-files/packages/PKG_PDF/SOIC_Narrow%20(R)/R_8.pdf; ComponentLink4Description: URL Link1; ComponentLink4URL: Product URL:http://www.analog.com/en/special-linear-functions/voltage-references/ad587/products/product.html
footprint ADI-R-8_N (SOIC, 8-Leads, Body 4.9x3.9mm, Pitch 1.27mm, IPC Medium Density)
footprint ADI-R-8_L (SOIC, 8-Leads, Body 4.9x3.9mm, Pitch 1.27mm, IPC High Density)
footprint ADI-R-8_M (SOIC, 8-Leads, Body 4.9x3.9mm, Pitch 1.27mm, IPC Low Density)
part A pins: 2 +VIN (power) "Input Voltage.", 4 GND (power) "Ground.", 5 TRIM (in) "Fine Trimming of Output Voltage.", 6 VOUT (power) "Output Voltage.", 8 NR "Noise Reduction of Output Voltage. Reduces noise via external capacitor to ground."
part B pins: 1 TP "No Connection. Leave floating.", 3 TP "No Connection. Leave floating.", 7 TP "No Connection. Leave floating."

## AD587UQ
designator U?
High Precision Voltage Reference, 10 V Output, 13.5 to 36 V Supply, Military, 8-pin DIP (Q-8), Tube; Manufacturer: Analog Devices; PartNumber: AD587UQ; Ref Out TC (ppm/C): 5; Vout: 10V; DatasheetVersion: Rev. H; PackageVersion: Aug-05; PackageReference: Q-8; PackageDescription: 8-Pin Ceramic Dual In-Line Package, Row spacing 7.62 mm, Pitch 2.54 mm; Supplier 1: Digi-Key; Supplier Part Number 1: AD587UQ-ND; Supplier 2: Mouser; Supplier Part Number 2: 584-AD587UQ; Packing: Tube; Operating Temp Range: -55 to 125 degC; Mounting Technology: Through Hole; ComponentLink1Description: Manufacturer URL; ComponentLink1URL: http://www.analog.com/en/index.html; ComponentLink2Description: Datasheet; ComponentLink2URL: http://www.analog.com/static/imported-files/data_sheets/AD587.pdf; ComponentLink3Description: Package Specification; ComponentLink3URL: http://www.analog.com/static/imported-files/packages/3925655241313314758Q_8.pdf; ComponentLink4Description: URL Link1; ComponentLink4URL: Product URL:http://www.analog.com/en/special-linear-functions/voltage-references/ad587/products/product.html
footprint ADI-Q-8 (DIP, 8-Leads, Body 10.29x6.73mm, Pitch 2.54mm)
part A pins: 2 +VIN (power) "Input Voltage.", 4 GND (power) "Ground.", 5 TRIM (in) "Fine Trimming of Output Voltage.", 6 VOUT (power) "Output Voltage.", 8 NR "Noise Reduction of Output Voltage. Reduces noise via external capacitor to ground."
part B pins: 1 TP "No Connection. Leave floating.", 3 TP "No Connection. Leave floating.", 7 TP "No Connection. Leave floating."

## AD588AQ
designator U?
Multiple Output, High Precision, Dual-Tracking Reference, + / - 10, + / - 5 V Output, + / - 15 V Supply, Industrial, 16-pin DIP (Q-16), Tube; Manufacturer: Analog Devices; PartNumber: AD588AQ; Ref Out TC (ppm/C): 3; Vout: +/-5V, +/-10V; DatasheetVersion: Rev. L; PackageVersion: Aug-05; PackageReference: Q-16; PackageDescription: 16-Pin Ceramic Dual In-Line Package, Row spacing 7.62 mm, Pitch 2.54 mm; Supplier 1: Digi-Key; Supplier Part Number 1: AD588AQ-ND; Supplier 2: Mouser; Supplier Part Number 2: 584-AD588AQ; Packing: Tube; Operating Temp Range: -25 to 85 degC; Mounting Technology: Through Hole; ComponentLink1Description: Manufacturer URL; ComponentLink1URL: http://www.analog.com/en/index.html; ComponentLink2Description: Datasheet; ComponentLink2URL: http://www.analog.com/static/imported-files/data_sheets/AD588.pdf; ComponentLink3Description: Package Specification; ComponentLink3URL: http://www.analog.com/static/imported-files/packages/54083157002221Q_16.pdf; ComponentLink4Description: URL Link1; ComponentLink4URL: Product URL:http://www.analog.com/en/special-linear-functions/voltage-references/ad588/products/product.html
footprint ADI-Q-16 (DIP, 16-Leads, Body 21.34x6.73mm, Pitch 2.54mm)
pins: 1 A3 OUT FORCE (power) "Output from Buffering Amplifier 3 with Kelvin Force. Connect to Pin 3.", 2 +VS (power) "Positive Power Supply.", 3 A3 OUT SENSE (in) "Output from Buffering Amplifier 3 with Kelvin Sense. Connect to Pin 1.", 4 A3 IN (in) "+ Input to Amplifier 3. Connect to VHIGH, Pin 6.", 5 GAIN ADJ (in) "Reference Gain Adjustment for Calibration. See the Calibration section.", 6 VHIGH (out) "Unbuffered Reference High Output.", 7 NR "Noise Filtering Pin. Connect external 1 uF capacitor to ground to reduce the output noise (see the Noise Performance and Reduction section). Can be left open.", 8 VLOW (out) "Unbuffered Reference Low Output.", 9 GND SENSE +IN (in) "+ Input to the Ground Sense Amplifier.", 10 GND SENSE -IN (in) "- Input to the Ground Sense Amplifier.", 11 VCT (out) "Center Tap Voltage used for Calibration. See the Calibration section.", 12 BAL ADJ (in) "Reference Centering Adjustment for Calibration. See the Calibration section.", 13 A4 IN (in) "+ Input to Amplifier 4. Connect to VLOW, Pin 8.", 14 A4 OUT SENSE (in) "Output of Buffering Amplifier 4 with Kelvin Sense. Connect to Pin 15.", 15 A4 OUT FORCE (power) "Output of Buffering Amplifier 4 with Kelvin Force. Connect to Pin 14.", 16 -VS (power) "Negative Power Supply."

## AD588ARWZ
designator U?
Multiple Output, High Precision, Dual-Tracking Reference, + / - 10, + / - 5 V Output, + / - 15 V Supply, Industrial, 16-pin SOIC (RW-16), Tube; Manufacturer: Analog Devices; PartNumber: AD588ARWZ; Ref Out TC (ppm/C): 3; Vout: +/-5V, +/-10V; DatasheetVersion: Rev. L; PackageVersion: 032707-B, 03/2007; PackageReference: RW-16; PackageDescription: 16-Pin Standard Small Outline Package, Body 10.3 x 7.5 mm, Pitch 1.27 mm; Supplier 1: Digi-Key; Supplier Part Number 1: AD588ARWZ-ND; Supplier 2: Farnell; Supplier Part Number 2: 2377055; Supplier 3: Mouser; Supplier Part Number 3: 584-AD588ARWZ; Packing: Tube; Operating Temp Range: -25 to 85 degC; Mounting Technology: Surface Mount; Code_JEDEC: MS-013-AA; ComponentLink1Description: Manufacturer URL; ComponentLink1URL: http://www.analog.com/en/index.html; ComponentLink2Description: Datasheet; ComponentLink2URL: http://www.analog.com/static/imported-files/data_sheets/AD588.pdf; ComponentLink3Description: Package Specification; ComponentLink3URL: http://www.analog.com/static/imported-files/packages/PKG_PDF/SOIC_WIDE%20%28RW%29/RW_16.pdf; ComponentLink4Description: URL Link1; ComponentLink4URL: Product URL:http://www.analog.com/en/special-linear-functions/voltage-references/ad588/products/product.html
footprint ADI-RW-16_N (SOIC, 16-Leads, Body 10.3x7.5mm, Pitch 1.27mm, IPC Medium Density)
footprint ADI-RW-16_L (SOIC, 16-Leads, Body 10.3x7.5mm, Pitch 1.27mm, IPC High Density)
footprint ADI-RW-16_M (SOIC, 16-Leads, Body 10.3x7.5mm, Pitch 1.27mm, IPC Low Density)
pins: 1 A3 OUT FORCE (power) "Output from Buffering Amplifier 3 with Kelvin Force. Connect to Pin 3.", 2 +VS (power) "Positive Power Supply.", 3 A3 OUT SENSE (in) "Output from Buffering Amplifier 3 with Kelvin Sense. Connect to Pin 1.", 4 A3 IN (in) "+ Input to Amplifier 3. Connect to VHIGH, Pin 6.", 5 GAIN ADJ (in) "Reference Gain Adjustment for Calibration. See the Calibration section.", 6 VHIGH (out) "Unbuffered Reference High Output.", 7 NR "Noise Filtering Pin. Connect external 1 uF capacitor to ground to reduce the output noise (see the Noise Performance and Reduction section). Can be left open.", 8 VLOW (out) "Unbuffered Reference Low Output.", 9 GND SENSE +IN (in) "+ Input to the Ground Sense Amplifier.", 10 GND SENSE -IN (in) "- Input to the Ground Sense Amplifier.", 11 VCT (out) "Center Tap Voltage used for Calibration. See the Calibration section.", 12 BAL ADJ (in) "Reference Centering Adjustment for Calibration. See the Calibration section.", 13 A4 IN (in) "+ Input to Amplifier 4. Connect to VLOW, Pin 8.", 14 A4 OUT SENSE (in) "Output of Buffering Amplifier 4 with Kelvin Sense. Connect to Pin 15.", 15 A4 OUT FORCE (power) "Output of Buffering Amplifier 4 with Kelvin Force. Connect to Pin 14.", 16 -VS (power) "Negative Power Supply."

## AD588BQ
designator U?
Multiple Output, High Precision, Dual-Tracking Reference, + / - 10, + / - 5 V Output, + / - 15 V Supply, Industrial, 16-pin DIP (Q-16), Tube; Manufacturer: Analog Devices; PartNumber: AD588BQ; Ref Out TC (ppm/C): 1.5; Vout: +/-5V, +/-10V; DatasheetVersion: Rev. L; PackageVersion: Aug-05; PackageReference: Q-16; PackageDescription: 16-Pin Ceramic Dual In-Line Package, Row spacing 7.62 mm, Pitch 2.54 mm; Supplier 1: Digi-Key; Supplier Part Number 1: AD588BQ-ND; Supplier 2: Mouser; Supplier Part Number 2: 584-AD588BQ; Packing: Tube; Operating Temp Range: -25 to 85 degC; Mounting Technology: Through Hole; ComponentLink1Description: Manufacturer URL; ComponentLink1URL: http://www.analog.com/en/index.html; ComponentLink2Description: Datasheet; ComponentLink2URL: http://www.analog.com/static/imported-files/data_sheets/AD588.pdf; ComponentLink3Description: Package Specification; ComponentLink3URL: http://www.analog.com/static/imported-files/packages/54083157002221Q_16.pdf; ComponentLink4Description: URL Link1; ComponentLink4URL: Product URL:http://www.analog.com/en/special-linear-functions/voltage-references/ad588/products/product.html
footprint ADI-Q-16 (DIP, 16-Leads, Body 21.34x6.73mm, Pitch 2.54mm)
pins: 1 A3 OUT FORCE (power) "Output from Buffering Amplifier 3 with Kelvin Force. Connect to Pin 3.", 2 +VS (power) "Positive Power Supply.", 3 A3 OUT SENSE (in) "Output from Buffering Amplifier 3 with Kelvin Sense. Connect to Pin 1.", 4 A3 IN (in) "+ Input to Amplifier 3. Connect to VHIGH, Pin 6.", 5 GAIN ADJ (in) "Reference Gain Adjustment for Calibration. See the Calibration section.", 6 VHIGH (out) "Unbuffered Reference High Output.", 7 NR "Noise Filtering Pin. Connect external 1 uF capacitor to ground to reduce the output noise (see the Noise Performance and Reduction section). Can be left open.", 8 VLOW (out) "Unbuffered Reference Low Output.", 9 GND SENSE +IN (in) "+ Input to the Ground Sense Amplifier.", 10 GND SENSE -IN (in) "- Input to the Ground Sense Amplifier.", 11 VCT (out) "Center Tap Voltage used for Calibration. See the Calibration section.", 12 BAL ADJ (in) "Reference Centering Adjustment for Calibration. See the Calibration section.", 13 A4 IN (in) "+ Input to Amplifier 4. Connect to VLOW, Pin 8.", 14 A4 OUT SENSE (in) "Output of Buffering Amplifier 4 with Kelvin Sense. Connect to Pin 15.", 15 A4 OUT FORCE (power) "Output of Buffering Amplifier 4 with Kelvin Force. Connect to Pin 14.", 16 -VS (power) "Negative Power Supply."